# Altium footprint library led-cube.PcbLib: 2 footprints
Each footprint in its own frame and in the unit in brackets; x right, y up, seen from the top. Pads: shape width x height; smd on the part's side, far side on the other; paste and mask are expansions set on the pad; w line width, h text height; cw(c..) or ccw(c..) is an arc to the next point about the centre after c.
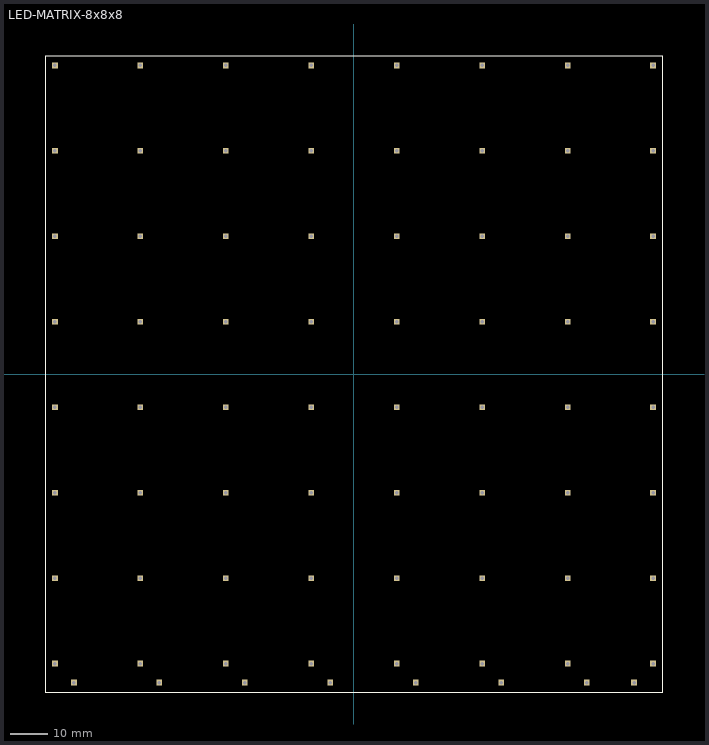
[diagram p0: the footprints below, top view; thin cyan lines are the x and y axes]

## LED-MATRIX-8x8x8 [mil]
pads (72):
  rect 62x62 hole 35: 1(-3150,3250) 2(-2250,3250) 3(-1350,3250) 4(-450,3250) 5(450,3250) 6(1350,3250) 7(2250,3250) 8(3150,3250) 9(-3150,2350) 10(-2250,2350) 11(-1350,2350) 12(-450,2350) 13(450,2350) 14(1350,2350) 15(2250,2350) 16(3150,2350) 17(-3150,1450) 18(-2250,1450) 19(-1350,1450) 20(-450,1450) 21(450,1450) 22(1350,1450) 23(2250,1450) 24(3150,1450) 25(-3150,550) 26(-2250,550) 27(-1350,550) 28(-450,550) 29(450,550) 30(1350,550) 31(2250,550) 32(3150,550) 33(-3150,-350) 34(-2250,-350) 35(-1350,-350) 36(-450,-350) 37(450,-350) 38(1350,-350) 39(2250,-350) 40(3150,-350) 41(-3150,-1250) 42(-2250,-1250) 43(-1350,-1250) 44(-450,-1250) 45(450,-1250) 46(1350,-1250) 47(2250,-1250) 48(3150,-1250) 49(-3150,-2150) 50(-2250,-2150) 51(-1350,-2150) 52(-450,-2150) 53(450,-2150) 54(1350,-2150) 55(2250,-2150) 56(3150,-2150) 57(-3150,-3050) 58(-2250,-3050) 59(-1350,-3050) 60(-450,-3050) 61(450,-3050) 62(1350,-3050) 63(2250,-3050) 64(3150,-3050) 65(-2950,-3250) 66(-2050,-3250) 67(-1150,-3250) 68(-250,-3250) 69(650,-3250) 70(1550,-3250) 71(2450,-3250) 72(2950,-3250)
Top Overlay:
  lines w3.94: -3250,3350 3250,3350
  lines w8: -3250,3350 -3250,-3350 3250,-3350 3250,3350

## PCBComponent_1 [mil]